# Altium footprint library Разное_discrete.PcbLib: 51 footprints (part 1 of 4)
Each footprint in its own frame and in the unit in brackets; x right, y up, seen from the top. Pads: shape width x height; smd on the part's side, far side on the other; paste and mask are expansions set on the pad; w line width, h text height; cw(c..) or ccw(c..) is an arc to the next point about the centre after c.
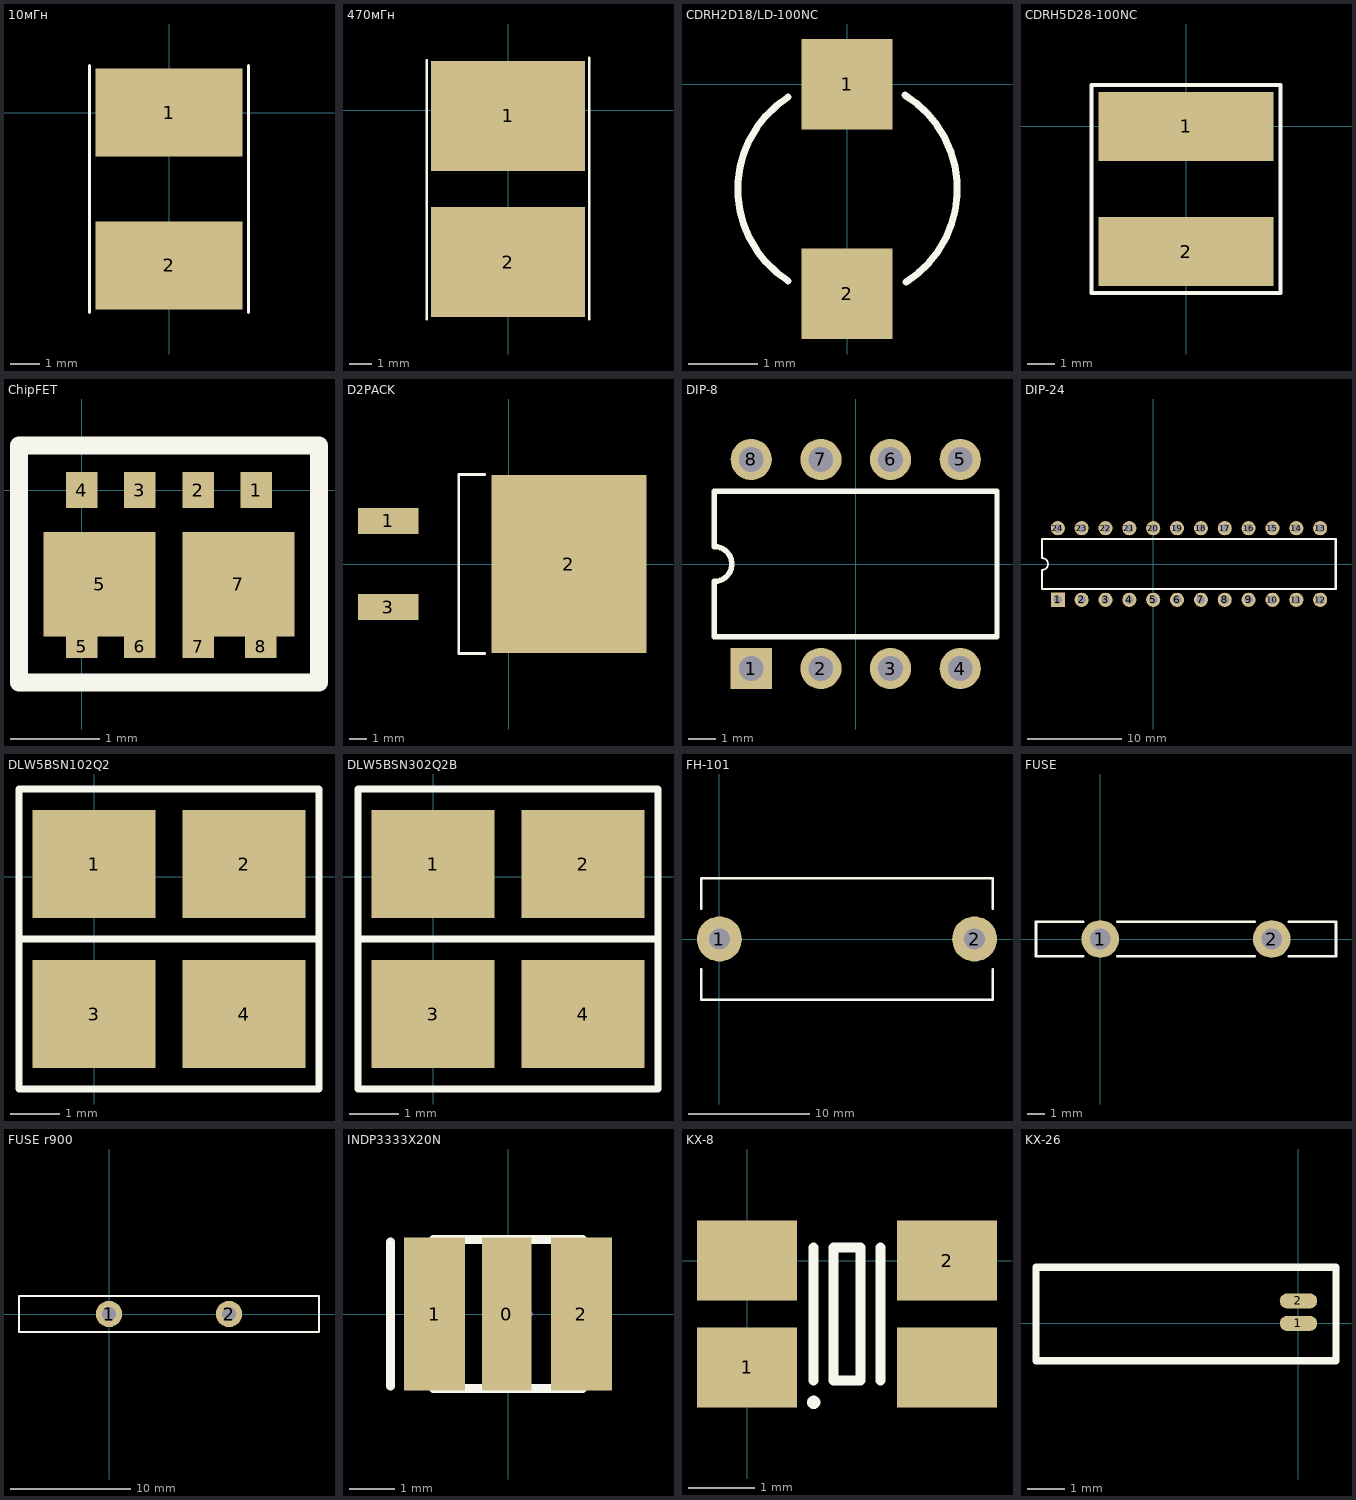
[diagram p0: the footprints below, top view; thin cyan lines are the x and y axes]

## 10мГн [mm] "Дросель СМД"
height 4.6
pads (2):
  rect 5x3 smd: 1(0,0) 2(0,-5.2)
Top Overlay:
  lines w0.1: -2.7,-6.8 -2.7,1.6 ; 2.7,-6.8 2.7,1.6
3D body: height 5, standoff 0, extent -2.5,-5.3 2.5,-0.3

## 470мГн [mm] "Дросель СМД"
height 4.6
pads (2):
  rect 7x5 smd: 1(0,-0.25) 2(0,-6.9)
Top Overlay:
  lines w0.1: -3.7,-9.5 -3.7,2.3 ; 3.7,-9.5 3.7,2.4
3D body: height 5, standoff 0, extent -3.436,-7.086 3.436,-0.2

## CDRH2D18/LD-100NC [mm] "Дросель СМД"
height 4.6
pads (2):
  rect 1.3x1.3 smd: 1(0,0) 2(0,-3)
Top Overlay:
  lines w0.1: -0.846,-2.817 cw(c0,-1.5) -0.846,-0.183 ; 0.829,-0.153 cw(c0,-1.5) 0.849,-2.834
3D body: height 2, standoff 0, extent -1.6,-3.1 1.587,0.094

## CDRH5D28-100NC [mm] "Дросель СМД"
height 4.6
pads (2):
  rect 6.3x2.5 smd: 1(0,0) 2(0,-4.5)
Top Overlay:
  lines w0.15: -3.4,-6 3.4,-6 3.4,1.5 -3.4,1.5 -3.4,-6
3D body: height 2.8, standoff 0, extent -3.3,-5.3 3.3,0.8

## ChipFET [mm]
height 1
pads (10):
  rect 0.35x0.4 smd: 1(1.95,0) 2(1.3,0) 3(0.65,0) 4(0,0)
  rect 0.35x0.25 smd: 5(0,-1.75) 6(0.65,-1.75) 7(1.3,-1.75) 8(2,-1.75)
  rect 1.25x1.17 smd: 5(0.2,-1.05) 7(1.75,-1.05)
Top Overlay:
  lines w0.2: -0.7,-2.15 2.65,-2.15 2.65,0.5 -0.7,0.5 -0.7,-2.15
3D body: height 1, standoff 0, extent -0.6,-1.85 2.55,0.15

## D2PACK [mm] "D2-PAK, 4-Leads, Body 9.2x10.2mm, Pitch 2.54mm, Lead Span 15.4mm, IPC High Density"
height 4.6
pads (3):
  rect 3.5x1.5 smd: 1(-7,2.5) 3(-7,-2.5)
  rect 9x10.35 smd: 2(3.5,0)
Top Overlay:
  lines w0.15: -1.4,-5.2 -2.9,-5.2 -2.9,5.2 -1.4,5.2
Mechanical 13:
  lines w0.1: -2.9,-5.2 -2.9,5.2
3D body: height 4.6, standoff 0, extent -2.9,-5.2 6.5,5.2

## DIP-8 [mm] "DIP; 8 Leads; Row Spacing 7.62 mm; Pitch 2.54 mm"
height 5.08
pads (8):
  rect 1.5x1.5 hole 0.9: 1(-3.81,-3.81)
  round 1.5 hole 0.9: 2(-1.27,-3.81) 3(1.27,-3.81) 4(3.81,-3.81) 5(3.81,3.81) 6(1.27,3.81) 7(-1.27,3.81) 8(-3.81,3.81)
Top Overlay:
  lines w0.2: -5.15,-2.65 5.15,-2.65 5.15,2.65 -5.15,2.65 -5.15,0.635 cw(c-5.15,0) -5.15,-0.635 -5.15,-2.65

## DIP-24 [mm] "DIP; 18 Leads; Row Spacing 7.62 mm; Pitch 2.54 mm"
height 5.08
pads (24):
  rect 1.5x1.5 hole 0.9: 1(-10.16,-3.81)
  round 1.5 hole 0.9: 2(-7.62,-3.81) 3(-5.08,-3.81) 4(-2.54,-3.81) 5(0,-3.81) 6(2.54,-3.81) 7(5.08,-3.81) 8(7.62,-3.81) 9(10.16,-3.81) 10(12.7,-3.81) 11(15.24,-3.81) 12(17.78,-3.81) 13(17.78,3.81) 14(15.24,3.81) 15(12.7,3.81) 16(10.16,3.81) 17(7.62,3.81) 18(5.08,3.81) 19(2.54,3.81) 20(0,3.81) 21(-2.54,3.81) 22(-5.08,3.81) 23(-7.62,3.81) 24(-10.16,3.81)
Top Overlay:
  lines w0.2: 19.47,-2.65 19.47,2.65 ; -11.85,-2.65 -11.85,-0.635 ccw(c-11.85,0) -11.85,0.635 -11.85,2.65 19.431,2.65 19.431,-2.65 -11.85,-2.65

## DLW5BSN102Q2 [mm] "Дросель СМД"
height 4.2
pads (4):
  rect 2.5x2.2 smd: 1(0,0.254) 2(3.048,0.254) 3(0,-2.794) 4(3.048,-2.794)
Top Overlay:
  lines w0.15: -1.524,-1.27 4.572,-1.27 ; -1.524,-4.318 4.572,-4.318 4.572,1.778 -1.524,1.778 -1.524,-4.318
3D body: height 4.2, standoff 0.1, extent -1.016,-3.81 4.064,1.27

## DLW5BSN302Q2B [mm] "Дросель СМД"
height 4.2
pads (4):
  rect 2.5x2.2 smd: 1(0,0.254) 2(3.048,0.254) 3(0,-2.794) 4(3.048,-2.794)
Top Overlay:
  lines w0.15: -1.524,-1.27 4.572,-1.27 ; -1.524,-4.318 -1.524,1.778 4.572,1.778 4.572,-4.318 -1.524,-4.318
3D body: height 4.2, standoff 0.1, extent -1.016,-3.81 4.064,1.27

## FH-101 [mm]
height 13
pads (2):
  round 3.7 hole 1.7: 1(0,0) 2(21,0)
Top Overlay:
  lines w0.2: -1.5,-2.5 -1.5,-5 22.5,-5 22.5,-2.5 ; -1.5,2.5 -1.5,5 22.5,5 22.5,2.5
3D body: height 3, standoff -3, extent 20.5,-0.5 21.5,0.5
3D body: height 3, standoff -3, extent -0.5,-0.5 0.5,0.5
3D body: height 13.4, standoff 0, extent -1.5,-5 22.5,5

## FUSE [mm]
pads (2):
  round 2.2 hole 1.2: 1(0,0) 2(10,0)
Top Overlay:
  lines w0.15: -1,-1 -3.75,-1 -3.75,1 -1,1 ; 1,-1 9,-1 ; 1,1 9,1 ; 11,-1 13.75,-1 13.75,1 11,1
3D body: height 1, standoff -3, extent 9.504,-0.499 10.5,0.499
3D body: height 1, standoff -3, extent -0.496,-0.499 0.5,0.499
3D body: height 17.5, standoff 1, extent -3.75,-1 13.75,1

## FUSE r900 [mm]
height 32.9
pads (2):
  round 2.2 hole 1.2: 1(0,0) 2(10,0)
Top Overlay:
  lines w0.15: -7.5,-1.5 -7.5,1.5 -1,1.5 11,1.5 17.5,1.5 17.5,-1.5 11,-1.5 -1,-1.5 -7.5,-1.5
3D body: height 32, standoff 1, extent -7.5,-1.5 17.5,1.5
3D body: height 1, standoff -3, extent -0.496,-0.499 0.5,0.499
3D body: height 1, standoff -3, extent 9.504,-0.499 10.5,0.499

## INDP3333X20N [mm] "Precision Wire Wound Inductor, 2-Leads, Body 3.30x3.30mm, IPC Medium Density"
height 2
pads (3):
  rect 1.1x3.4 smd: 0(-0.025,0)
  rect 1.35x3.4 smd: 1(-1.625,0) 2(1.625,0)
Top Overlay:
  lines w0.2: -2.6,-1.6 -2.6,1.6 ; -1.65,-1.65 1.65,-1.65 ; -1.65,1.65 1.65,1.65
Mechanical 13:
  rectangle: -1.65,-1.65 -1.206,1.65
  lines w0.1: -1.65,-1.65 -1.65,1.65 1.65,1.65 1.65,-1.65 -1.65,-1.65
Mechanical 15:
  lines w0.05: -1.65,-1.65 -1.65,1.65 1.65,1.65 1.65,-1.65 -1.65,-1.65
  lines w0.1: -0.5,0 0.5,0 ; 0,-0.5 0,0.5
3D body: height 2, standoff 0, extent -1.65,-1.65 1.65,1.65

## KX-8 [mm]
pads (4):
  rect 1.5x1.2 smd: 1(0,-1.6) 2(3,0) ""(0,0) ""(3,-1.6)
Top Overlay:
  circle w0.1: c1,-2.125 r0.05
  lines w0.15: 1,-1.8 1,0.2 ; 2,-1.8 2,0.2 ; 1.3,-1.8 1.7,-1.8 1.7,0.2 1.3,0.2 1.3,-1.8
3D body: height 0.8, standoff 0, extent -0.8,-2.2 3.8,0.6

## KX-26 [mm]
height 3
pads (2):
  oval 1x0.4 all layers, no hole: 1(0,0) 2(0,0.6)
Top Overlay:
  lines w0.2: -7,-1 1,-1 1,1.5 -7,1.5 -7,-1
3D body: height 3, standoff 0, extent -7,-1 1,1.5